# Altium schematic symbol library SCH - POWER - LINEAR VREG - TI LM1085IT-12.SchLib: 1 symbol
Pins are listed as number, name and electrical type; pins without a type are passive.

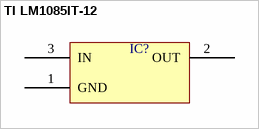
[diagram p0: symbol TI LM1085IT-12]

## TI LM1085IT-12
designator IC?  (value not drawn)
pins: 1 GND, 2 OUT, 3 IN